# Altium integrated library Infineon_Power_MOSFET.IntLib: 1448 symbols (part 4 of 47)
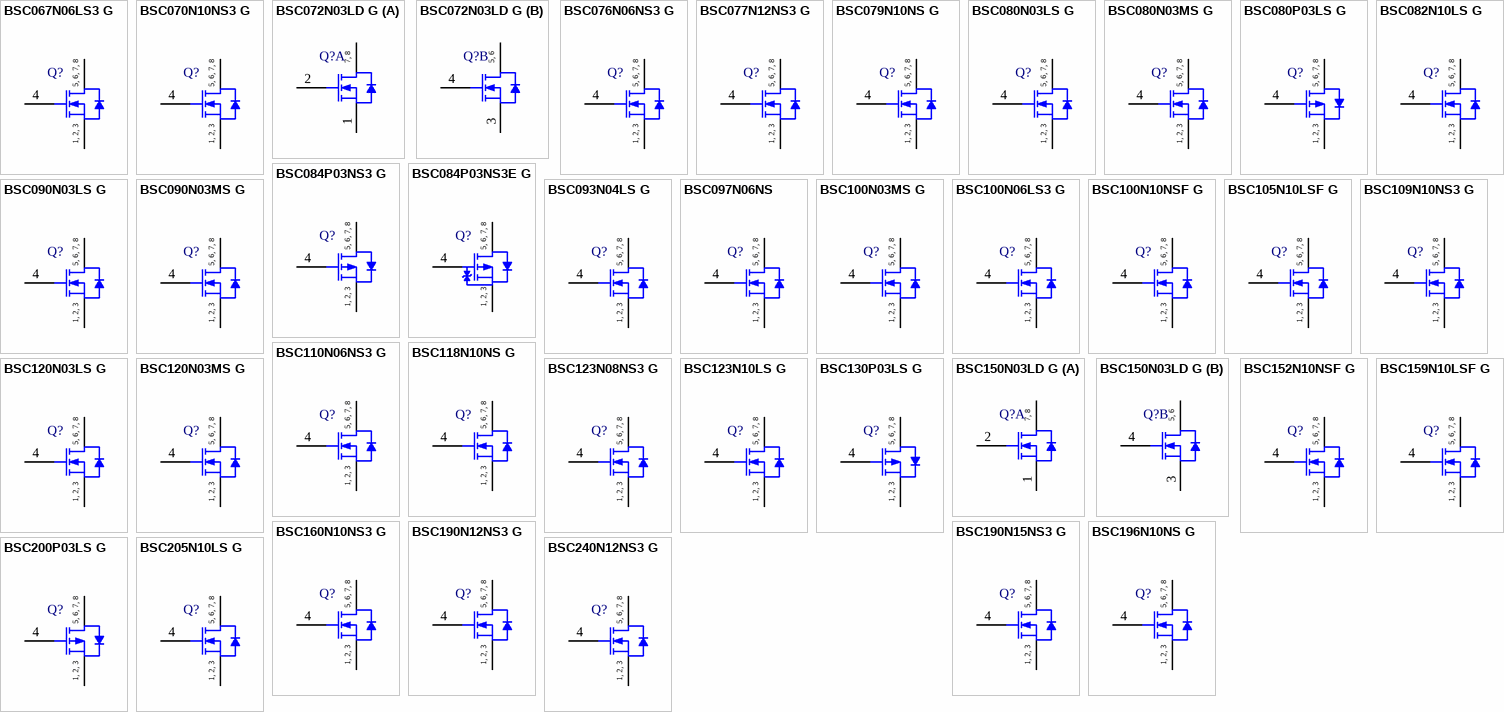
[diagram p40: symbols BSC067N06LS3 G to BSC240N12NS3 G]

## BSC093N04LS G
designator Q?
N-Channel OptiMOS 3 Power-Transistor, 40 V VDS, 49 A ID, -55 to 150 degC, PG-TDSON-8-1, Reel, Green; Manufacturer: Infineon; PartNumber: BSC093N04LS G; Green: TRUE; ID (max): 49 A; IDpuls (max): 196 A; Polarity: N; Ptot (max): 35 W; QG: 18 nC; RDS (on) (max): 9.3 mOhm; RDS (on) (max) (@4.5V): 13.7 mOhm; Rth: 3.6 K/W; RthJA (max): 50 K/W; VDS (max): 40 V; VGS(th) (max): 2 V; VGS(th) (min): 1.2 V; DatasheetVersion: Rev. 1.04; PackageReference: PG-TDSON-8-1; PackageDescription: 8-Pin Plastic (Green) Thin Dual Small Outline Non-Leaded Package, 5.15 x 5.9 mm Body, 1.27 mm Pitch; Supplier 1: Mouser; Supplier Part Number 1: 726-BSC093N04LSG; Supplier 2: Newark; Supplier Part Number 2: 60R2507; Supplier 3: Farnell; Supplier Part Number 3: 1775460; Supplier 4: Digi-Key; Supplier Part Number 4: BSC093N04LS GTR-ND; Supplier 5: Digi-Key; Supplier Part Number 5: BSC093N04LS GCT-ND; Supplier 6: Digi-Key; Supplier Part Number 6: BSC093N04LS GDKR-ND; Halogen-free: TRUE; Packing: Reel; RthJC (max): 3.6 K/W; Mounting Technology: Surface Mount; ComponentLink1Description: Manufacturer URL; ComponentLink1URL: http://www.infineon.com/; ComponentLink2Description: Datasheet; ComponentLink2URL: http://www.infineon.com/dgdl/BSC093N04LSG_rev14.pdf?folderId=db3a3043156fd5730115c7d50620107c&fileId=db3a30431689f4420116c44a1fa80822; ComponentLink3Description: Package Specification; ComponentLink3URL: http://www.infineon.com/cms/packages/SMD_-_Surface_Mounted_Devices/P-PG-TDSON/P-PG-TDSON-08-01x_2x_3.html?__locale=en
footprint INF-PG-TDSON-8-1_V (TDSON, 8-Leads, Body 6.15x5.15mm, Pitch 1.27mm)
pins: 1 SOURCE, 2 SOURCE, 3 SOURCE, 4 GATE, 5 DRAIN, 6 DRAIN, 7 DRAIN, 8 DRAIN
text: 5, 6, 7, 8; 1, 2, 3

## BSC097N06NS
designator Q?
N-Channel OptiMOS(TM) Power-Transistor, 60 V VDS, 46 A ID, -55 to 150 degC, PG-TDSON-8, Reel, Green; Manufacturer: Infineon; PartNumber: BSC097N06NS; Green: TRUE; ID (max): 46 A; IDpuls (max): 184 A; Polarity: N; Ptot (max): 36 W; RDS (on) (max): 9.7 mOhm; RthJA (max): 50 K/W; RthJC (max): 3.5 K/W; VDS (max): 60 V; VGS(th) (max): 3.3 V; VGS(th) (min): 2.1 V; DatasheetVersion: Rev. 2.0; PackageVersion: Rev. 04, 04/2013; PackageReference: PG-TDSON-8-04; PackageDescription: 8-Pin Plastic (Green) Thin Dual Small Outline Non-Leaded Package, 5.9 x 5.15 mm Body, 1.27 mm Pitch; Supplier 1: Mouser; Supplier Part Number 1: N/A; Halogen-free: TRUE; Mounting: SMD; Packing: Reel; Technology: OptiMOS(TM); Mounting Technology: Surface Mount; ComponentLink1Description: Manufacturer URL; ComponentLink1URL: http://www.infineon.com/; ComponentLink2Description: Datasheet; ComponentLink2URL: http://www.infineon.com/dgdl/BSC097N06NS_Rev2.0.pdf?folderId=db3a304313b8b5a60113cee8763b02d7&fileId=db3a304342371bb001424cdd69b87155; ComponentLink3Description: Package Specification; ComponentLink3URL: http://www.infineon.com/dgdl/BSC019N04LS_rev2.0.pdf?folderId=db3a304313b8b5a60113cee8763b02d7&fileId=db3a304342371bb001424b8aca0c6fc4
footprint INF-PG-TDSON-8-04_V (SON, 8-Leads, Body 5.9x5.15mm, Pitch 1.27mm)
pins: 1 SOURCE, 2 SOURCE, 3 SOURCE, 4 GATE, 5 DRAIN, 6 DRAIN, 7 DRAIN, 8 DRAIN
text: 5, 6, 7, 8; 1, 2, 3

## BSC100N03MS G
designator Q?
N-Channel OptiMOS 3 M-Series Power-MOSFET, 30 V VDS, 44 A ID, -55 to 150 degC, PG-TDSON-8-1, Reel, Green; Manufacturer: Infineon; PartNumber: BSC100N03MS G; Green: TRUE; ID (max): 44 A; IDpuls (max): 176 A; Polarity: N; Ptot (max): 30 W; QG: 17 nC; RDS (on) (max): 10 mOhm; RDS (on) (max) (@4.5V): 12 mOhm; Rth: 4.1 K/W; RthJA (max): 50 K/W; VDS (max): 30 V; VGS(th) (max): 2 V; VGS(th) (min): 1 V; DatasheetVersion: Rev. 1.16; PackageReference: PG-TDSON-8-1; PackageDescription: 8-Pin Plastic (Green) Thin Dual Small Outline Non-Leaded Package, 5.15 x 5.9 mm Body, 1.27 mm Pitch; Supplier 1: Mouser; Supplier Part Number 1: 726-BSC100N03MSG; Supplier 2: Digi-Key; Supplier Part Number 2: BSC100N03MSGINTR-ND; Supplier 3: Digi-Key; Supplier Part Number 3: BSC100N03MSGINCT-ND; Supplier 4: Digi-Key; Supplier Part Number 4: BSC100N03MSGINDKR-ND; Halogen-free: TRUE; Packing: Reel; RthJC (max): 4.1 K/W; Mounting Technology: Surface Mount; ComponentLink1Description: Manufacturer URL; ComponentLink1URL: http://www.infineon.com/; ComponentLink2Description: Datasheet; ComponentLink2URL: http://www.infineon.com/dgdl/BSC100N03MSG_rev1.16.pdf?folderId=db3a304313d846880113d91d60c500c4&fileId=db3a304313d846880113de73c33c039c; ComponentLink3Description: Package Specification; ComponentLink3URL: http://www.infineon.com/cms/packages/SMD_-_Surface_Mounted_Devices/P-PG-TDSON/P-PG-TDSON-08-01x_2x_3.html?__locale=en
footprint INF-PG-TDSON-8-1_V (TDSON, 8-Leads, Body 6.15x5.15mm, Pitch 1.27mm)
pins: 1 SOURCE, 2 SOURCE, 3 SOURCE, 4 GATE, 5 DRAIN, 6 DRAIN, 7 DRAIN, 8 DRAIN
text: 5, 6, 7, 8; 1, 2, 3

## BSC100N06LS3 G
designator Q?
N-Channel OptiMOS 3 Power-Transistor, 60 V VDS, 50 A ID, -55 to 150 degC, PG-TDSON-8-1, Reel, Green; Manufacturer: Infineon; PartNumber: BSC100N06LS3 G; Green: TRUE; ID (max): 50 A; IDpuls (max): 200 A; Polarity: N; Ptot (max): 50 W; QG: 15 nC; RDS (on) (max): 10 mOhm; RDS (on) (max) (@4.5V): 17.9 mOhm; Rth: 2.5 K/W; RthJA (max): 62 K/W; VDS (max): 60 V; VGS(th) (max): 2.2 V; VGS(th) (min): 1.2 V; DatasheetVersion: Rev. 2.2; PackageReference: PG-TDSON-8-1; PackageDescription: 8-Pin Plastic (Green) Thin Dual Small Outline Non-Leaded Package, 5.15 x 5.9 mm Body, 1.27 mm Pitch; Supplier 1: Mouser; Supplier Part Number 1: 726-BSC100N06LS3G; Supplier 2: Newark; Supplier Part Number 2: 47W3311; Supplier 3: Farnell; Supplier Part Number 3: 2212844; Supplier 4: Digi-Key; Supplier Part Number 4: BSC100N06LS3 GTR-ND; Supplier 5: Digi-Key; Supplier Part Number 5: BSC100N06LS3 GCT-ND; Supplier 6: Digi-Key; Supplier Part Number 6: BSC100N06LS3 GDKR-ND; Halogen-free: TRUE; Packing: Reel; RthJC (max): 2.5 K/W; Mounting Technology: Surface Mount; ComponentLink1Description: Manufacturer URL; ComponentLink1URL: http://www.infineon.com/; ComponentLink2Description: Datasheet; ComponentLink2URL: http://www.infineon.com/dgdl/BSC100N06LS3_rev2.2.pdf?folderId=db3a30431ddc9372011ebafa04517f8b&fileId=db3a30431ddc9372011ebb0823387fd7; ComponentLink3Description: Package Specification; ComponentLink3URL: http://www.infineon.com/cms/packages/SMD_-_Surface_Mounted_Devices/P-PG-TDSON/P-PG-TDSON-08-01x_2x_3.html?__locale=en
footprint INF-PG-TDSON-8-1_V (TDSON, 8-Leads, Body 6.15x5.15mm, Pitch 1.27mm)
pins: 1 SOURCE, 2 SOURCE, 3 SOURCE, 4 GATE, 5 DRAIN, 6 DRAIN, 7 DRAIN, 8 DRAIN
text: 5, 6, 7, 8; 1, 2, 3

## BSC100N10NSF G
designator Q?
N-Channel OptiMOS 2 Power-Transistor, 100 V VDS, 90 A ID, -55 to 150 degC, PG-TDSON-8-1, Reel, Green; Manufacturer: Infineon; PartNumber: BSC100N10NSF G; Green: TRUE; ID (max): 90 A; IDpuls (max): 360 A; Polarity: N; Ptot (max): 156 W; QG: 33 nC; RDS (on) (max): 10 mOhm; Rth: 0.8 K/W; RthJA (max): 62 K/W; VDS (max): 100 V; VGS(th) (max): 4 V; VGS(th) (min): 2 V; DatasheetVersion: Rev. 2.08; PackageReference: PG-TDSON-8-1; PackageDescription: 8-Pin Plastic (Green) Thin Dual Small Outline Non-Leaded Package, 5.15 x 5.9 mm Body, 1.27 mm Pitch; Supplier 1: Mouser; Supplier Part Number 1: 726-BSC100N10NSFG; Supplier 2: Digi-Key; Supplier Part Number 2: BSC100N10NSF GTR-ND; Supplier 3: Digi-Key; Supplier Part Number 3: BSC100N10NSF GCT-ND; Supplier 4: Digi-Key; Supplier Part Number 4: BSC100N10NSF GDKR-ND; Halogen-free: TRUE; Packing: Reel; RthJC (max): 0.8 K/W; Mounting Technology: Surface Mount; ComponentLink1Description: Manufacturer URL; ComponentLink1URL: http://www.infineon.com/; ComponentLink2Description: Datasheet; ComponentLink2URL: http://www.infineon.com/dgdl/BSC100N10NSF+Rev28.pdf?folderId=db3a304313b8b5a60113cee8763b02d7&fileId=db3a30431b3e89eb011b49a75b607b57; ComponentLink3Description: Package Specification; ComponentLink3URL: http://www.infineon.com/cms/packages/SMD_-_Surface_Mounted_Devices/P-PG-TDSON/P-PG-TDSON-08-01x_2x_3.html?__locale=en
footprint INF-PG-TDSON-8-1_V (TDSON, 8-Leads, Body 6.15x5.15mm, Pitch 1.27mm)
pins: 1 SOURCE, 2 SOURCE, 3 SOURCE, 4 GATE, 5 DRAIN, 6 DRAIN, 7 DRAIN, 8 DRAIN
text: 5, 6, 7, 8; 1, 2, 3

## BSC105N10LSF G
designator Q?
N-Channel OptiMOS 2 Power-Transistor, 100 V VDS, 90 A ID, -55 to 150 degC , PG-TDSON-8-1, Reel, Green; Manufacturer: Infineon; PartNumber: BSC105N10LSF G; Green: TRUE; ID (max): 90 A; IDpuls (max): 360 A; Polarity: N; Ptot (max): 156 W; QG: 40 nC; RDS (on) (max): 10.5 mOhm; RDS (on) (max) (@4.5V): 14.1 mOhm; Rth: 0.8 K/W; RthJA (max): 62 K/W; RthJC (max): 0.8 K/W; VDS (max): 100 V; VGS(th) (max): 2.4 V; VGS(th) (min): 1.2 V; DatasheetVersion: Rev. 2.09; PackageReference: PG-TDSON-8-1; PackageDescription: 8-Pin Plastic (Green) Thin Dual Small Outline Non-Leaded Package, 5.15 x 5.9 mm Body, 1.27 mm Pitch; Supplier 1: Mouser; Supplier Part Number 1: 726-BSC105N10LSFG; Supplier 2: Digi-Key; Supplier Part Number 2: BSC105N10LSF G-ND; Halogen-free: TRUE; Packing: Reel; Mounting Technology: Surface Mount; ComponentLink1Description: Manufacturer URL; ComponentLink1URL: http://www.infineon.com/; ComponentLink2Description: Datasheet; ComponentLink2URL: http://www.infineon.com/dgdl/BSC105N10LSF+Rev29.pdf?folderId=db3a304313b8b5a60113cee8763b02d7&fileId=db3a30431b3e89eb011b499b2aa07b26; ComponentLink3Description: Package Specification; ComponentLink3URL: http://www.infineon.com/cms/packages/SMD_-_Surface_Mounted_Devices/P-PG-TDSON/P-PG-TDSON-08-01x_2x_3.html?__locale=en
footprint INF-PG-TDSON-8-1_V (TDSON, 8-Leads, Body 6.15x5.15mm, Pitch 1.27mm)
pins: 1 SOURCE, 2 SOURCE, 3 SOURCE, 4 GATE, 5 DRAIN, 6 DRAIN, 7 DRAIN, 8 DRAIN
text: 5, 6, 7, 8; 1, 2, 3

## BSC109N10NS3 G
designator Q?
N-Channel OptiMOS 3 Power-Transistor, 100 V VDS, 63 A ID, -55 to 150 degC, PG-TDSON-8-1, Reel, Green; Manufacturer: Infineon; PartNumber: BSC109N10NS3 G; Green: TRUE; ID (max): 63 A; IDpuls (max): 252 A; Polarity: N; Ptot (max): 78 W; QG: 26 nC; RDS (on) (max): 10.9 mOhm; Rth: 1.5 K/W; RthJA (max): 62 K/W; VDS (max): 100 V; VGS(th) (max): 3.5 V; VGS(th) (min): 2 V; DatasheetVersion: Rev. 2.0; PackageReference: PG-TDSON-8-1; PackageDescription: 8-Pin Plastic (Green) Thin Dual Small Outline Non-Leaded Package, 5.15 x 5.9 mm Body, 1.27 mm Pitch; Supplier 1: Mouser; Supplier Part Number 1: 726-BSC109N10NS3G; Supplier 2: Digi-Key; Supplier Part Number 2: BSC109N10NS3 GTR-ND; Supplier 3: Digi-Key; Supplier Part Number 3: BSC109N10NS3 GCT-ND; Supplier 4: Digi-Key; Supplier Part Number 4: BSC109N10NS3 GDKR-ND; Halogen-free: TRUE; Packing: Reel; RthJC (max): 1.5 K/W; Mounting Technology: Surface Mount; ComponentLink1Description: Manufacturer URL; ComponentLink1URL: http://www.infineon.com/; ComponentLink2Description: Datasheet; ComponentLink2URL: http://www.infineon.com/dgdl/BSC109N10NS3+Rev2.pdf?folderId=db3a304313b8b5a60113cee8763b02d7&fileId=db3a304327b897500128247bdae36f3f; ComponentLink3Description: Package Specification; ComponentLink3URL: http://www.infineon.com/cms/packages/SMD_-_Surface_Mounted_Devices/P-PG-TDSON/P-PG-TDSON-08-01x_2x_3.html?__locale=en
footprint INF-PG-TDSON-8-1_V (TDSON, 8-Leads, Body 6.15x5.15mm, Pitch 1.27mm)
pins: 1 SOURCE, 2 SOURCE, 3 SOURCE, 4 GATE, 5 DRAIN, 6 DRAIN, 7 DRAIN, 8 DRAIN
text: 5, 6, 7, 8; 1, 2, 3

## BSC110N06NS3 G
designator Q?
N-Channel OptiMOS 3 Power-Transistor, 60 V VDS, 50 A ID, -55 to 150 degC, PG-TDSON-8-1, Reel, Green; Manufacturer: Infineon; PartNumber: BSC110N06NS3 G; Green: TRUE; ID (max): 50 A; IDpuls (max): 200 A; Polarity: N; Ptot (max): 50 W; QG: 25 nC; RDS (on) (max): 11 mOhm; Rth: 2.5 K/W; RthJA (max): 62 K/W; VDS (max): 60 V; VGS(th) (max): 4 V; VGS(th) (min): 2 V; DatasheetVersion: Rev. 2.3; PackageReference: PG-TDSON-8-1; PackageDescription: 8-Pin Plastic (Green) Thin Dual Small Outline Non-Leaded Package, 5.15 x 5.9 mm Body, 1.27 mm Pitch; Supplier 1: Mouser; Supplier Part Number 1: 726-BSC110N06NS3G; Supplier 2: Newark; Supplier Part Number 2: 47W3312; Supplier 3: Farnell; Supplier Part Number 3: 2212842; Supplier 4: Digi-Key; Supplier Part Number 4: BSC110N06NS3 GTR-ND; Supplier 5: Digi-Key; Supplier Part Number 5: BSC110N06NS3 GCT-ND; Supplier 6: Digi-Key; Supplier Part Number 6: BSC110N06NS3 GDKR-ND; Halogen-free: TRUE; Packing: Reel; RthJC (max): 2.5 K/W; Mounting Technology: Surface Mount; ComponentLink1Description: Manufacturer URL; ComponentLink1URL: http://www.infineon.com/; ComponentLink2Description: Datasheet; ComponentLink2URL: http://www.infineon.com/dgdl/BSC110N06NS3_Rev2.3.pdf?folderId=db3a30431ddc9372011ebafa04517f8b&fileId=db3a30431ddc9372011ebb0be43c7fe6; ComponentLink3Description: Package Specification; ComponentLink3URL: http://www.infineon.com/cms/packages/SMD_-_Surface_Mounted_Devices/P-PG-TDSON/P-PG-TDSON-08-01x_2x_3.html?__locale=en
footprint INF-PG-TDSON-8-1_V (TDSON, 8-Leads, Body 6.15x5.15mm, Pitch 1.27mm)
pins: 1 SOURCE, 2 SOURCE, 3 SOURCE, 4 GATE, 5 DRAIN, 6 DRAIN, 7 DRAIN, 8 DRAIN
text: 5, 6, 7, 8; 1, 2, 3

## BSC118N10NS G
designator Q?
N-Channel OptiMOS 2 Power-Transistor, 100 V VDS, 71 A ID, -55 to 150 degC , PG-TDSON-8-1, Reel, Green; Manufacturer: Infineon; PartNumber: BSC118N10NS G; Green: TRUE; ID (max): 71 A; IDpuls (max): 280 A; Polarity: N; Ptot (max): 114 W; QG: 42 nC; RDS (on) (max): 11.8 mOhm; Rth: 1.1 K/W; RthJA (max): 62 K/W; VDS (max): 100 V; VGS(th) (max): 4 V; VGS(th) (min): 2 V; DatasheetVersion: Rev. 1.08; PackageReference: PG-TDSON-8-1; PackageDescription: 8-Pin Plastic (Green) Thin Dual Small Outline Non-Leaded Package, 5.15 x 5.9 mm Body, 1.27 mm Pitch; Supplier 1: Mouser; Supplier Part Number 1: 726-BSC118N10NSG; Supplier 2: Digi-Key; Supplier Part Number 2: BSC118N10NS G-ND; Halogen-free: TRUE; Packing: Reel; RthJC (max): 1.1 K/W; Mounting Technology: Surface Mount; ComponentLink1Description: Manufacturer URL; ComponentLink1URL: http://www.infineon.com/; ComponentLink2Description: Datasheet; ComponentLink2URL: http://www.infineon.com/dgdl/BSC118N10NS+Rev18_pdf.pdf?folderId=db3a3043156fd5730115c7d50620107c&fileId=db3a3043163797a6011647fdc2d4071c; ComponentLink3Description: Package Specification; ComponentLink3URL: http://www.infineon.com/cms/packages/SMD_-_Surface_Mounted_Devices/P-PG-TDSON/P-PG-TDSON-08-01x_2x_3.html?__locale=en
footprint INF-PG-TDSON-8-1_V (TDSON, 8-Leads, Body 6.15x5.15mm, Pitch 1.27mm)
pins: 1 SOURCE, 2 SOURCE, 3 SOURCE, 4 GATE, 5 DRAIN, 6 DRAIN, 7 DRAIN, 8 DRAIN
text: 5, 6, 7, 8; 1, 2, 3

## BSC120N03LS G
designator Q?
N-Channel OptiMOS 3 Power-MOSFET, 30 V VDS, 39 A ID, -55 to 150 degC, PG-TDSON-8-1, Reel, Green; Manufacturer: Infineon; PartNumber: BSC120N03LS G; Green: TRUE; ID (max): 39 A; IDpuls (max): 156 A; Polarity: N; Ptot (max): 28 W; QG: 5.4 nC; RDS (on) (max): 12 mOhm; RDS (on) (max) (@4.5V): 16.5 mOhm; Rth: 4.5 K/W; RthJA (max): 50 K/W; VDS (max): 30 V; VGS(th) (max): 2.2 V; VGS(th) (min): 1 V; DatasheetVersion: Rev. 1.6; PackageReference: PG-TDSON-8-1; PackageDescription: 8-Pin Plastic (Green) Thin Dual Small Outline Non-Leaded Package, 5.15 x 5.9 mm Body, 1.27 mm Pitch; Supplier 1: Mouser; Supplier Part Number 1: 726-BSC120N03LSG; Supplier 2: Newark; Supplier Part Number 2: 60R2513; Supplier 3: Farnell; Supplier Part Number 3: 1775466; Supplier 4: Digi-Key; Supplier Part Number 4: BSC120N03LSGINTR-ND; Supplier 5: Digi-Key; Supplier Part Number 5: BSC120N03LSGINCT-ND; Supplier 6: Digi-Key; Supplier Part Number 6: BSC120N03LSGINDKR-ND; Halogen-free: TRUE; Packing: Reel; RthJC (max): 4.5 K/W; Mounting Technology: Surface Mount; ComponentLink1Description: Manufacturer URL; ComponentLink1URL: http://www.infineon.com/; ComponentLink2Description: Datasheet; ComponentLink2URL: http://www.infineon.com/dgdl/BSC120N03LS_rev1.6.pdf?folderId=db3a3043132679fb0113346bdc4505a3&fileId=db3a3043183a955501189caf1e5e4010; ComponentLink3Description: Package Specification; ComponentLink3URL: http://www.infineon.com/cms/packages/SMD_-_Surface_Mounted_Devices/P-PG-TDSON/P-PG-TDSON-08-01x_2x_3.html?__locale=en
footprint INF-PG-TDSON-8-1_V (TDSON, 8-Leads, Body 6.15x5.15mm, Pitch 1.27mm)
pins: 1 SOURCE, 2 SOURCE, 3 SOURCE, 4 GATE, 5 DRAIN, 6 DRAIN, 7 DRAIN, 8 DRAIN
text: 5, 6, 7, 8; 1, 2, 3

## BSC120N03MS G
designator Q?
N-Channel OptiMOS 3 M-Series Power-MOSFET, 30 V VDS, 39 A ID, -55 to 150 degC, PG-TDSON-8-1, Reel, Green; Manufacturer: Infineon; PartNumber: BSC120N03MS G; Green: TRUE; ID (max): 39 A; IDpuls (max): 156 A; Polarity: N; Ptot (max): 28 W; QG: 15 nC; RDS (on) (max): 12 mOhm; RDS (on) (max) (@4.5V): 14 mOhm; Rth: 4.5 K/W; RthJA (max): 50 K/W; VDS (max): 30 V; VGS(th) (max): 2 V; VGS(th) (min): 1 V; DatasheetVersion: Rev. 1.17; PackageReference: PG-TDSON-8-1; PackageDescription: 8-Pin Plastic (Green) Thin Dual Small Outline Non-Leaded Package, 5.15 x 5.9 mm Body, 1.27 mm Pitch; Supplier 1: Mouser; Supplier Part Number 1: 726-BSC120N03MSG; Supplier 2: Newark; Supplier Part Number 2: 60R2514; Supplier 3: Farnell; Supplier Part Number 3: 1775468; Supplier 4: Digi-Key; Supplier Part Number 4: BSC120N03MSGINTR-ND; Supplier 5: Digi-Key; Supplier Part Number 5: BSC120N03MSGINCT-ND; Supplier 6: Digi-Key; Supplier Part Number 6: BSC120N03MSGINDKR-ND; Halogen-free: TRUE; Packing: Reel; RthJC (max): 4.5 K/W; Mounting Technology: Surface Mount; ComponentLink1Description: Manufacturer URL; ComponentLink1URL: http://www.infineon.com/; ComponentLink2Description: Datasheet; ComponentLink2URL: http://www.infineon.com/dgdl/BSC120N03MSG_rev1.17.pdf?folderId=db3a304313d846880113d91d60c500c4&fileId=db3a304313d846880113de761b1d03a5; ComponentLink3Description: Package Specification; ComponentLink3URL: http://www.infineon.com/cms/packages/SMD_-_Surface_Mounted_Devices/P-PG-TDSON/P-PG-TDSON-08-01x_2x_3.html?__locale=en
footprint INF-PG-TDSON-8-1_V (TDSON, 8-Leads, Body 6.15x5.15mm, Pitch 1.27mm)
pins: 1 SOURCE, 2 SOURCE, 3 SOURCE, 4 GATE, 5 DRAIN, 6 DRAIN, 7 DRAIN, 8 DRAIN
text: 5, 6, 7, 8; 1, 2, 3

## BSC123N08NS3 G
designator Q?
N-Channel OptiMOS 3 Power-Transistor, 80 V VDS, 55 A ID, -55 to 150 degC, PG-TDSON-8-1, Reel, Green; Manufacturer: Infineon; PartNumber: BSC123N08NS3 G; Green: TRUE; ID (max): 55 A; IDpuls (max): 220 A; Polarity: N; Ptot (max): 66 W; QG: 19 nC; RDS (on) (max): 12.3 mOhm; Rth: 1.9 K/W; RthJA (max): 60 K/W; VDS (max): 80 V; VGS(th) (max): 3.5 V; VGS(th) (min): 2 V; DatasheetVersion: Rev. 2.5; PackageReference: PG-TDSON-8-1; PackageDescription: 8-Pin Plastic (Green) Thin Dual Small Outline Non-Leaded Package, 5.15 x 5.9 mm Body, 1.27 mm Pitch; Supplier 1: Mouser; Supplier Part Number 1: 726-BSC123N08NS3G; Supplier 2: Newark; Supplier Part Number 2: 60R2515; Supplier 3: Farnell; Supplier Part Number 3: 1775469; Supplier 4: Digi-Key; Supplier Part Number 4: BSC123N08NS3 GTR-ND; Supplier 5: Digi-Key; Supplier Part Number 5: BSC123N08NS3 GCT-ND; Supplier 6: Digi-Key; Supplier Part Number 6: BSC123N08NS3 GDKR-ND; Halogen-free: TRUE; Packing: Reel; RthJC (max): 1.9 K/W; Mounting Technology: Surface Mount; ComponentLink1Description: Manufacturer URL; ComponentLink1URL: http://www.infineon.com/; ComponentLink2Description: Datasheet; ComponentLink2URL: http://www.infineon.com/dgdl/BSC123N08NS3G_rev2.5.pdf?folderId=db3a304313b8b5a60113cee8763b02d7&fileId=db3a30431add1d95011ae80eb8555625; ComponentLink3Description: Package Specification; ComponentLink3URL: http://www.infineon.com/cms/packages/SMD_-_Surface_Mounted_Devices/P-PG-TDSON/P-PG-TDSON-08-01x_2x_3.html?__locale=en
footprint INF-PG-TDSON-8-1_V (TDSON, 8-Leads, Body 6.15x5.15mm, Pitch 1.27mm)
pins: 1 SOURCE, 2 SOURCE, 3 SOURCE, 4 GATE, 5 DRAIN, 6 DRAIN, 7 DRAIN, 8 DRAIN
text: 5, 6, 7, 8; 1, 2, 3

## BSC123N10LS G
designator Q?
N-Channel OptiMOS 2 Power-Transistor, 100 V VDS, 71 A ID, -55 to 150 degC , PG-TDSON-8-1, Reel, Green; Manufacturer: Infineon; PartNumber: BSC123N10LS G; Green: TRUE; ID (max): 71 A; IDpuls (max): 284 A; Polarity: N; Ptot (max): 114 W; QG: 51 nC; RDS (on) (max): 12.3 mOhm; RDS (on) (max) (@4.5V): 16.6 mOhm; Rth: 1.1 K/W; RthJA (max): 62 K/W; VDS (max): 100 V; VGS(th) (max): 2.4 V; VGS(th) (min): 1.2 V; DatasheetVersion: Rev. 2.08; PackageReference: PG-TDSON-8-1; PackageDescription: 8-Pin Plastic (Green) Thin Dual Small Outline Non-Leaded Package, 5.15 x 5.9 mm Body, 1.27 mm Pitch; Supplier 1: Mouser; Supplier Part Number 1: 726-BSC123N10LSG; Supplier 2: Newark; Supplier Part Number 2: 52R3478; Supplier 3: Farnell; Supplier Part Number 3: 1775470; Supplier 4: Digi-Key; Supplier Part Number 4: BSC123N10LS G-ND; Halogen-free: TRUE; Packing: Reel; RthJC (max): 1.1 K/W; Mounting Technology: Surface Mount; ComponentLink1Description: Manufacturer URL; ComponentLink1URL: http://www.infineon.com/; ComponentLink2Description: Datasheet; ComponentLink2URL: http://www.infineon.com/dgdl/BSC123N10LS+Rev28.pdf?folderId=db3a304313b8b5a60113cee8763b02d7&fileId=db3a30431b3e89eb011b4626974b7df5; ComponentLink3Description: Package Specification; ComponentLink3URL: http://www.infineon.com/cms/packages/SMD_-_Surface_Mounted_Devices/P-PG-TDSON/P-PG-TDSON-08-01x_2x_3.html?__locale=en
footprint INF-PG-TDSON-8-1_V (TDSON, 8-Leads, Body 6.15x5.15mm, Pitch 1.27mm)
pins: 1 SOURCE, 2 SOURCE, 3 SOURCE, 4 GATE, 5 DRAIN, 6 DRAIN, 7 DRAIN, 8 DRAIN
text: 5, 6, 7, 8; 1, 2, 3

## BSC130P03LS G
designator Q?
P-Channel OptiMOS P Power-Transistor, -30 V VDS, -22.5 A ID, -55 to 150 degC, PG-TDSON-8-1, Reel, Green; Manufacturer: Infineon; PartNumber: BSC130P03LS G; Green: TRUE; ID (max): -22.5 A; IDpuls (max): -90 A; Pto t (max): 69 W; QG: -54.9 nC; RDS (on) (max): 13 mOhm; Rth: 1.8 K/W; VDS (max): -30 V; VGS(th) (max): -1 V; VGS(th) (min): -2.2 V; DatasheetVersion: Rev. 1.04; PackageReference: PG-TDSON-8-1; PackageDescription: 8-Pin Plastic (Green) Thin Dual Small Outline Non-Leaded Package, 5.15 x 5.9 mm Body, 1.27 mm Pitch; Supplier 1: Mouser; Supplier Part Number 1: 726-BSC130P03LSG; Supplier 2: Digi-Key; Supplier Part Number 2: BSC130P03LS GINTR-ND; Supplier 3: Digi-Key; Supplier Part Number 3: BSC130P03LS GINCT-ND; Supplier 4: Digi-Key; Supplier Part Number 4: BSC130P03LS GINDKR-ND; Halogen-free: TRUE; Packing: Reel; RthJC (max): 1.8 K/W; Mounting Technology: Surface Mount; ComponentLink1Description: Manufacturer URL; ComponentLink1URL: http://www.infineon.com/; ComponentLink2Description: Datasheet; ComponentLink2URL: http://www.infineon.com/dgdl/BSC130P03LS+G_Rev14_.pdf?folderId=db3a304314dca38901154a7313d21a66&fileId=db3a304314dca38901154a78a8b31a6e; ComponentLink3Description: Package Specification; ComponentLink3URL: http://www.infineon.com/cms/packages/SMD_-_Surface_Mounted_Devices/P-PG-TDSON/P-PG-TDSON-08-01x_2x_3.html?__locale=en
footprint INF-PG-TDSON-8-1_V (TDSON, 8-Leads, Body 6.15x5.15mm, Pitch 1.27mm)
pins: 1 SOURCE, 2 SOURCE, 3 SOURCE, 4 GATE, 5 DRAIN, 6 DRAIN, 7 DRAIN, 8 DRAIN
text: 5, 6, 7, 8; 1, 2, 3

## BSC150N03LD G
designator Q?
N-Channel OptiMOS 3 Power-Transistor, 30 V VDS, 20 A ID, -55 to 150 degC, PG-TDSON-8-4, Reel, Green; Manufacturer: Infineon; PartNumber: BSC150N03LD G; Green: TRUE; ID (max): 20 A; IDpuls (max): 80 A; Polarity: N; Ptot (max): 26 W; QG: 4.8 nC; RDS (on) (max): 15 mOhm; RDS (on) (max) (@4.5V): 22 mOhm; Rth: 4.9 K/W; RthJA (max): 35 K/W; VDS (max): 30 V; VGS(th) (max): 2.2 V; VGS(th) (min): 1 V; DatasheetVersion: Rev. 1.4; PackageVersion: Rev. 03; PackageReference: PG-TDSON-8-4; PackageDescription: 8-Pin Plastic (Green) Thin Dual Small Outline Non-Leaded Package, 5.15 x 5.9 mm Body, 1.27 mm Pitch; Supplier 1: Mouser; Supplier Part Number 1: 726-BSC150N03LDG; Supplier 2: Newark; Supplier Part Number 2: 60R2516; Supplier 3: Farnell; Supplier Part Number 3: 1775471; Supplier 4: Digi-Key; Supplier Part Number 4: BSC150N03LD GTR-ND; Supplier 5: Digi-Key; Supplier Part Number 5: BSC150N03LD GCT-ND; Supplier 6: Digi-Key; Supplier Part Number 6: BSC150N03LD GDKR-ND; Halogen-free: TRUE; Packing: Reel; RthJC (max): 4.9 K/W; Mounting Technology: Surface Mount; ComponentLink1Description: Manufacturer URL; ComponentLink1URL: http://www.infineon.com/; ComponentLink2Description: Datasheet; ComponentLink2URL: http://www.infineon.com/dgdl/BSC150N03LD_rev1.4.pdf?folderId=db3a304313b8b5a60113cee8ed2a02db&fileId=db3a304316f66ee80116fb504a5d729f; ComponentLink3Description: Package Specification; ComponentLink3URL: http://www.infineon.com/cms/packages/SMD_-_Surface_Mounted_Devices/P-PG-TDSON/P-PG-TDSON-08-04.html?__locale=en
footprint INF-PG-TDSON-8-4_V (SON, 8-Leads, Body 5.9x5.15mm, Pitch 1.27mm)
part A pins: 1 S1, 2 G1, 7 D1, 8 D1
part B pins: 3 S2, 4 G2, 5 D2, 6 D2
part A text: 7, 8
part B text: 5, 6

## BSC152N10NSF G
designator Q?
N-Channel OptiMOS 2 Power-Transistor, 100 V VDS, 63 A ID, -55 to 150 degC , PG-TDSON-8-1, Reel, Green; Manufacturer: Infineon; PartNumber: BSC152N10NSF G; Green: TRUE; ID (max): 63 A; IDpuls (max): 252 A; Polarity: N; Ptot (max): 114 W; QG: 22 nC; RDS (on) (max): 15.2 mOhm; Rth: 1.1 K/W; RthJA (max): 62 K/W; VDS (max): 100 V; VGS(th) (max): 4 V; VGS(th) (min): 2 V; DatasheetVersion: Rev. 2.08; PackageReference: PG-TDSON-8-1; PackageDescription: 8-Pin Plastic (Green) Thin Dual Small Outline Non-Leaded Package, 5.15 x 5.9 mm Body, 1.27 mm Pitch; Supplier 1: Digi-Key; Supplier Part Number 1: BSC152N10NSF G-ND; Halogen-free: TRUE; Packing: Reel; RthJC (max): 1.1 K/W; Mounting Technology: Surface Mount; ComponentLink1Description: Manufacturer URL; ComponentLink1URL: http://www.infineon.com/; ComponentLink2Description: Datasheet; ComponentLink2URL: http://www.infineon.com/dgdl/BSC152N10NSF+Rev28.pdf?folderId=db3a304313b8b5a60113cee8763b02d7&fileId=db3a30431b3e89eb011b49abfbbb7b66; ComponentLink3Description: Package Specification; ComponentLink3URL: http://www.infineon.com/cms/packages/SMD_-_Surface_Mounted_Devices/P-PG-TDSON/P-PG-TDSON-08-01x_2x_3.html?__locale=en
footprint INF-PG-TDSON-8-1_V (TDSON, 8-Leads, Body 6.15x5.15mm, Pitch 1.27mm)
pins: 1 SOURCE, 2 SOURCE, 3 SOURCE, 4 GATE, 5 DRAIN, 6 DRAIN, 7 DRAIN, 8 DRAIN
text: 5, 6, 7, 8; 1, 2, 3

## BSC159N10LSF G
designator Q?
N-Channel OptiMOS 2 Power-Transistor, 100 V VDS, 63 A ID, -55 to 150 degC , PG-TDSON-8-1, Reel, Green; Manufacturer: Infineon; PartNumber: BSC159N10LSF G; Green: TRUE; ID (max): 63 A; IDpuls (max): 252 A; Polarity: N; Ptot (max): 114 W; QG: 26 nC; RDS (on) (max): 15.9 mOhm; RDS (on) (max) (@4.5V): 21.5 mOhm; Rth: 1.1 K/W; RthJA (max): 62 K/W; VDS (max): 100 V; VGS(th) (max): 2.4 V; VGS(th) (min): 1.2 V; DatasheetVersion: Rev. 2.09; PackageReference: PG-TDSON-8-1; PackageDescription: 8-Pin Plastic (Green) Thin Dual Small Outline Non-Leaded Package, 5.15 x 5.9 mm Body, 1.27 mm Pitch; Supplier 1: Mouser; Supplier Part Number 1: 726-BSC159N10LSFG; Supplier 2: Newark; Supplier Part Number 2: 60R2518; Supplier 3: Farnell; Supplier Part Number 3: 1775473; Supplier 4: Digi-Key; Supplier Part Number 4: BSC159N10LSF GTR-ND; Supplier 5: Digi-Key; Supplier Part Number 5: BSC159N10LSF GCT-ND; Supplier 6: Digi-Key; Supplier Part Number 6: BSC159N10LSF GDKR-ND; Halogen-free: TRUE; Packing: Reel; RthJC (max): 1.1 K/W; Mounting Technology: Surface Mount; ComponentLink1Description: Manufacturer URL; ComponentLink1URL: http://www.infineon.com/; ComponentLink2Description: Datasheet; ComponentLink2URL: http://www.infineon.com/dgdl/BSC159N10LSF+Rev29.pdf?folderId=db3a304313b8b5a60113cee8763b02d7&fileId=db3a30431b3e89eb011b499f85d47b36; ComponentLink3Description: Package Specification; ComponentLink3URL: http://www.infineon.com/cms/packages/SMD_-_Surface_Mounted_Devices/P-PG-TDSON/P-PG-TDSON-08-01x_2x_3.html?__locale=en
footprint INF-PG-TDSON-8-1_V (TDSON, 8-Leads, Body 6.15x5.15mm, Pitch 1.27mm)
pins: 1 SOURCE, 2 SOURCE, 3 SOURCE, 4 GATE, 5 DRAIN, 6 DRAIN, 7 DRAIN, 8 DRAIN
text: 5, 6, 7, 8; 1, 2, 3

## BSC160N10NS3 G
designator Q?
N-Channel OptiMOS 3 Power-Transistor, 100 V VDS, 42 A ID, -55 to 150 degC, PG-TDSON-8-1, Reel, Green; Manufacturer: Infineon; PartNumber: BSC160N10NS3 G; Green: TRUE; ID (max): 42 A; IDpuls (max): 168 A; Polarity: N; Ptot (max): 60 W; QG: 19 nC; RDS (on) (max): 16 mOhm; Rth: 2.1 K/W; RthJA (max): 50 K/W; VDS (max): 100 V; VGS(th) (max): 3.5 V; VGS(th) (min): 2 V; DatasheetVersion: Rev. 2.4; PackageReference: PG-TDSON-8-1; PackageDescription: 8-Pin Plastic (Green) Thin Dual Small Outline Non-Leaded Package, 5.15 x 5.9 mm Body, 1.27 mm Pitch; Supplier 1: Mouser; Supplier Part Number 1: 726-BSC160N10NS3G; Supplier 2: Digi-Key; Supplier Part Number 2: BSC160N10NS3 GINTR-ND; Supplier 3: Digi-Key; Supplier Part Number 3: BSC160N10NS3 GINCT-ND; Supplier 4: Digi-Key; Supplier Part Number 4: BSC160N10NS3 GINDKR-ND; Halogen-free: TRUE; Packing: Reel; RthJC (max): 2.1 K/W; Mounting Technology: Surface Mount; ComponentLink1Description: Manufacturer URL; ComponentLink1URL: http://www.infineon.com/; ComponentLink2Description: Datasheet; ComponentLink2URL: http://www.infineon.com/dgdl/BSC160N10NS3+Rev2.4.pdf?folderId=db3a304313b8b5a60113cee8763b02d7&fileId=db3a30432239cccd01226040189a7f47; ComponentLink3Description: Package Specification; ComponentLink3URL: http://www.infineon.com/cms/packages/SMD_-_Surface_Mounted_Devices/P-PG-TDSON/P-PG-TDSON-08-01x_2x_3.html?__locale=en
footprint INF-PG-TDSON-8-1_V (TDSON, 8-Leads, Body 6.15x5.15mm, Pitch 1.27mm)
pins: 1 SOURCE, 2 SOURCE, 3 SOURCE, 4 GATE, 5 DRAIN, 6 DRAIN, 7 DRAIN, 8 DRAIN
text: 5, 6, 7, 8; 1, 2, 3

## BSC190N12NS3 G
designator Q?
N-Channel OptiMOS 3 Power-Transistor, 120 V VDS, 44 A ID, -55 to 150 degC , PG-TDSON-8-1, Reel, Green; Manufacturer: Infineon; PartNumber: BSC190N12NS3 G; Green: TRUE; ID (max): 44 A; IDpuls (max): 176 A; Polarity: N; Ptot (max): 69 W; QG: 26 nC; RDS (on) (max): 19 mOhm; Rth: 1.8 K/W; RthJA (max): 62 K/W; VDS (max): 120 V; VGS(th) (max): 4 V; VGS(th) (min): 2 V; DatasheetVersion: Rev. 2.5; PackageReference: PG-TDSON-8-1; PackageDescription: 8-Pin Plastic (Green) Thin Dual Small Outline Non-Leaded Package, 5.15 x 5.9 mm Body, 1.27 mm Pitch; Supplier 1: Mouser; Supplier Part Number 1: 726-BSC190N12NS3GXT; Supplier 2: Digi-Key; Supplier Part Number 2: BSC190N12NS3 GTR-ND; Supplier 3: Digi-Key; Supplier Part Number 3: BSC190N12NS3 GCT-ND; Supplier 4: Digi-Key; Supplier Part Number 4: BSC190N12NS3 GDKR-ND; Halogen-free: TRUE; Packing: Reel; RthJC (max): 1.8 K/W; Mounting Technology: Surface Mount; ComponentLink1Description: Manufacturer URL; ComponentLink1URL: http://www.infineon.com/; ComponentLink2Description: Datasheet; ComponentLink2URL: http://www.infineon.com/dgdl/BSC190N12NS3+Rev2.5.pdf?folderId=db3a304313b8b5a60113cee8763b02d7&fileId=db3a30432239cccd0122a7bb1e767d49; ComponentLink3Description: Package Specification; ComponentLink3URL: http://www.infineon.com/cms/packages/SMD_-_Surface_Mounted_Devices/P-PG-TDSON/P-PG-TDSON-08-01x_2x_3.html?__locale=en
footprint INF-PG-TDSON-8-1_V (TDSON, 8-Leads, Body 6.15x5.15mm, Pitch 1.27mm)
pins: 1 SOURCE, 2 SOURCE, 3 SOURCE, 4 GATE, 5 DRAIN, 6 DRAIN, 7 DRAIN, 8 DRAIN
text: 5, 6, 7, 8; 1, 2, 3

## BSC190N15NS3 G
designator Q?
N-Channel OptiMOS 3 Power-Transistor, 150 V VDS, 50 A ID, -55 to 150 degC, PG-TDSON-8-1, Reel, Green; Manufacturer: Infineon; PartNumber: BSC190N15NS3 G; Green: TRUE; ID (max): 50 A; IDpuls (max): 200 A; Polarity: N; Ptot (max): 125 W; QG: 23 nC; RDS (on) (max): 19 mOhm; Rth: 1 K/W; RthJA (max): 50 K/W; VDS (max): 150 V; VGS(th) (max): 4 V; VGS(th) (min): 2 V; DatasheetVersion: Rev. 2.4; PackageReference: PG-TDSON-8-1; PackageDescription: 8-Pin Plastic (Green) Thin Dual Small Outline Non-Leaded Package, 5.15 x 5.9 mm Body, 1.27 mm Pitch; Supplier 1: Mouser; Supplier Part Number 1: 726-BSC190N15NS3G; Supplier 2: Newark; Supplier Part Number 2: 79X1336; Supplier 3: Farnell; Supplier Part Number 3: 2432711; Supplier 4: Digi-Key; Supplier Part Number 4: BSC190N15NS3 GTR-ND; Supplier 5: Digi-Key; Supplier Part Number 5: BSC190N15NS3 GCT-ND; Supplier 6: Digi-Key; Supplier Part Number 6: BSC190N15NS3 GDKR-ND; Halogen-free: TRUE; Packing: Reel; RthJC (max): 1 K/W; Mounting Technology: Surface Mount; ComponentLink1Description: Manufacturer URL; ComponentLink1URL: http://www.infineon.com/; ComponentLink2Description: Datasheet; ComponentLink2URL: http://www.infineon.com/dgdl/BSC190N15NS3_Rev2.4.pdf?folderId=db3a304313b8b5a60113cee8763b02d7&fileId=db3a30431d8a6b3c011d8bf2fcf30076; ComponentLink3Description: Package Specification; ComponentLink3URL: http://www.infineon.com/cms/packages/SMD_-_Surface_Mounted_Devices/P-PG-TDSON/P-PG-TDSON-08-01x_2x_3.html?__locale=en
footprint INF-PG-TDSON-8-1_V (TDSON, 8-Leads, Body 6.15x5.15mm, Pitch 1.27mm)
pins: 1 SOURCE, 2 SOURCE, 3 SOURCE, 4 GATE, 5 DRAIN, 6 DRAIN, 7 DRAIN, 8 DRAIN
text: 5, 6, 7, 8; 1, 2, 3

## BSC196N10NS G
designator Q?
N-Channel OptiMOS 2 Power-Transistor, 100 V VDS, 45 A ID, -55 to 150 degC, PG-TDSON-8-1, Reel, Green; Manufacturer: Infineon; PartNumber: BSC196N10NS G; Green: TRUE; ID (max): 45 A; IDpuls (max): 164 A; Polarity: N; Ptot (max): 78 W; QG: 25 nC; RDS (on) (max): 19.6 mOhm; Rth: 1.6 K/W; RthJA (max): 62 K/W; VDS (max): 100 V; VGS(th) (max): 4 V; VGS(th) (min): 2 V; DatasheetVersion: Rev. 1.07; PackageReference: PG-TDSON-8-1; PackageDescription: 8-Pin Plastic (Green) Thin Dual Small Outline Non-Leaded Package, 5.15 x 5.9 mm Body, 1.27 mm Pitch; Supplier 1: Mouser; Supplier Part Number 1: 726-BSC196N10NSG; Supplier 2: Newark; Supplier Part Number 2: 60R2519; Supplier 3: Farnell; Supplier Part Number 3: 1775474; Supplier 4: Digi-Key; Supplier Part Number 4: BSC196N10NS GTR-ND; Supplier 5: Digi-Key; Supplier Part Number 5: BSC196N10NS GCT-ND; Supplier 6: Digi-Key; Supplier Part Number 6: BSC196N10NS GDKR-ND; Halogen-free: TRUE; Packing: Reel; RthJC (max): 1.6 K/W; Mounting Technology: Surface Mount; ComponentLink1Description: Manufacturer URL; ComponentLink1URL: http://www.infineon.com/; ComponentLink2Description: Datasheet; ComponentLink2URL: http://www.infineon.com/dgdl/BSC196N10NS+Rev17.pdf?folderId=db3a3043156fd5730115c7d50620107c&fileId=db3a3043163797a601164800549d071f; ComponentLink3Description: Package Specification; ComponentLink3URL: http://www.infineon.com/cms/packages/SMD_-_Surface_Mounted_Devices/P-PG-TDSON/P-PG-TDSON-08-01x_2x_3.html?__locale=en
footprint INF-PG-TDSON-8-1_V (TDSON, 8-Leads, Body 6.15x5.15mm, Pitch 1.27mm)
pins: 1 SOURCE, 2 SOURCE, 3 SOURCE, 4 GATE, 5 DRAIN, 6 DRAIN, 7 DRAIN, 8 DRAIN
text: 5, 6, 7, 8; 1, 2, 3

## BSC200P03LS G
designator Q?
OptiMOS-P Power-Transistor, -30 V VDS, -12.5 A ID, PG-TDSON-8-1, Reel, Green; Manufacturer: Infineon; PartNumber: BSC200P03LS G; Green: TRUE; ID (max): -12.5 A; RDS (on) (max): 20 mOhm; VDS (max): -30 V; DatasheetVersion: Rev. 1.04; PackageReference: PG-TDSON-8-1; PackageDescription: 8-Pin Plastic (Green) Thin Dual Small Outline Non-Leaded Package, 5.15 x 5.9 mm Body, 1.27 mm Pitch; Supplier 1: Digi-Key; Supplier Part Number 1: BSC200P03LS GINTR-ND; Supplier 2: Digi-Key; Supplier Part Number 2: BSC200P03LS GINCT-ND; Supplier 3: Digi-Key; Supplier Part Number 3: BSC200P03LS GINDKR-ND; Halogen-free: TRUE; Packing: Reel; Mounting Technology: Surface Mount; ComponentLink1Description: Manufacturer URL; ComponentLink1URL: http://www.infineon.com/; ComponentLink2Description: Datasheet; ComponentLink2URL: http://www.infineon.com/dgdl/BSC200P03LS+G_Rev14_.pdf?folderId=db3a304314dca38901154a7313d21a66&fileId=db3a304314dca38901154a79331b1a71; ComponentLink3Description: Package Specification; ComponentLink3URL: http://www.infineon.com/cms/packages/SMD_-_Surface_Mounted_Devices/P-PG-TDSON/P-PG-TDSON-08-01x_2x_3.html?__locale=en
footprint INF-PG-TDSON-8-1_V (TDSON, 8-Leads, Body 6.15x5.15mm, Pitch 1.27mm)
pins: 1 SOURCE, 2 SOURCE, 3 SOURCE, 4 GATE, 5 DRAIN, 6 DRAIN, 7 DRAIN, 8 DRAIN
text: 5, 6, 7, 8; 1, 2, 3

## BSC205N10LS G
designator Q?
N-Channel OptiMOS 2 Power-Transistor, 100 V VDS, 45 A ID, -55 to 150 degC, PG-TDSON-8-1, Reel, Green; Manufacturer: Infineon; PartNumber: BSC205N10LS G; Green: TRUE; ID (max): 45 A; IDpuls (max): 180 A; Polarity: N; Ptot (max): 76 W; QG: 31 nC; RDS (on) (max): 20.5 mOhm; RDS (on) (max) (@4.5V): 28 mOhm; Rth: 1.6 K/W; RthJA (max): 62 K/W; VDS (max): 100 V; VGS(th) (max): 2.4 V; VGS(th) (min): 1.2 V; DatasheetVersion: Rev. 2.08; PackageReference: PG-TDSON-8-1; PackageDescription: 8-Pin Plastic (Green) Thin Dual Small Outline Non-Leaded Package, 5.15 x 5.9 mm Body, 1.27 mm Pitch; Supplier 1: Mouser; Supplier Part Number 1: 726-BSC205N10LSG; Supplier 2: Digi-Key; Supplier Part Number 2: BSC205N10LS GTR-ND; Supplier 3: Digi-Key; Supplier Part Number 3: BSC205N10LS GCT-ND; Supplier 4: Digi-Key; Supplier Part Number 4: BSC205N10LS GDKR-ND; Halogen-free: TRUE; Packing: Reel; RthJC (max): 1.6 K/W; Mounting Technology: Surface Mount; ComponentLink1Description: Manufacturer URL; ComponentLink1URL: http://www.infineon.com/; ComponentLink2Description: Datasheet; ComponentLink2URL: http://www.infineon.com/dgdl/BSC205N10LS+Rev28.pdf?folderId=db3a304313b8b5a60113cee8763b02d7&fileId=db3a30431b3e89eb011b461925627de5; ComponentLink3Description: Package Specification; ComponentLink3URL: http://www.infineon.com/cms/packages/SMD_-_Surface_Mounted_Devices/P-PG-TDSON/P-PG-TDSON-08-01x_2x_3.html?__locale=en
footprint INF-PG-TDSON-8-1_V (TDSON, 8-Leads, Body 6.15x5.15mm, Pitch 1.27mm)
pins: 1 SOURCE, 2 SOURCE, 3 SOURCE, 4 GATE, 5 DRAIN, 6 DRAIN, 7 DRAIN, 8 DRAIN
text: 5, 6, 7, 8; 1, 2, 3

## BSC240N12NS3 G
designator Q?
N-Channel OptiMOS 3 Power-Transistor, 120 V VDS, 37 A ID, -55 to 150 degC , PG-TDSON-8-1, Reel, Green; Manufacturer: Infineon; PartNumber: BSC240N12NS3 G; Green: TRUE; ID (max): 37 A; IDpuls (max): 148 A; Polarity: N; Ptot (max): 66 W; QG: 20 nC; RDS (on) (max): 24 mOhm; Rth: 1.9 K/W; RthJA (max): 50 K/W; RthJC (max): 1.9 K/W; VDS (max): 120 V; VGS(th) (max): 4 V; VGS(th) (min): 2 V; DatasheetVersion: Rev. 2.0; PackageReference: PG-TDSON-8-1; PackageDescription: 8-Pin Plastic (Green) Thin Dual Small Outline Non-Leaded Package, 5.15 x 5.9 mm Body, 1.27 mm Pitch; Supplier 1: Mouser; Supplier Part Number 1: 726-BSC240N12NS3G; Supplier 2: Digi-Key; Supplier Part Number 2: BSC240N12NS3 GTR-ND; Supplier 3: Digi-Key; Supplier Part Number 3: BSC240N12NS3 GCT-ND; Supplier 4: Digi-Key; Supplier Part Number 4: BSC240N12NS3 GDKR-ND; Halogen-free: TRUE; Packing: Reel; Mounting Technology: Surface Mount; ComponentLink1Description: Manufacturer URL; ComponentLink1URL: http://www.infineon.com/; ComponentLink2Description: Datasheet; ComponentLink2URL: http://www.infineon.com/dgdl/BSC240N12NS3+Rev2.pdf?folderId=db3a304313b8b5a60113cee8763b02d7&fileId=db3a30432a40a650012a42e6a9060027; ComponentLink3Description: Package Specification; ComponentLink3URL: http://www.infineon.com/cms/packages/SMD_-_Surface_Mounted_Devices/P-PG-TDSON/P-PG-TDSON-08-01x_2x_3.html?__locale=en
footprint INF-PG-TDSON-8-1_V (TDSON, 8-Leads, Body 6.15x5.15mm, Pitch 1.27mm)
pins: 1 SOURCE, 2 SOURCE, 3 SOURCE, 4 GATE, 5 DRAIN, 6 DRAIN, 7 DRAIN, 8 DRAIN
text: 5, 6, 7, 8; 1, 2, 3

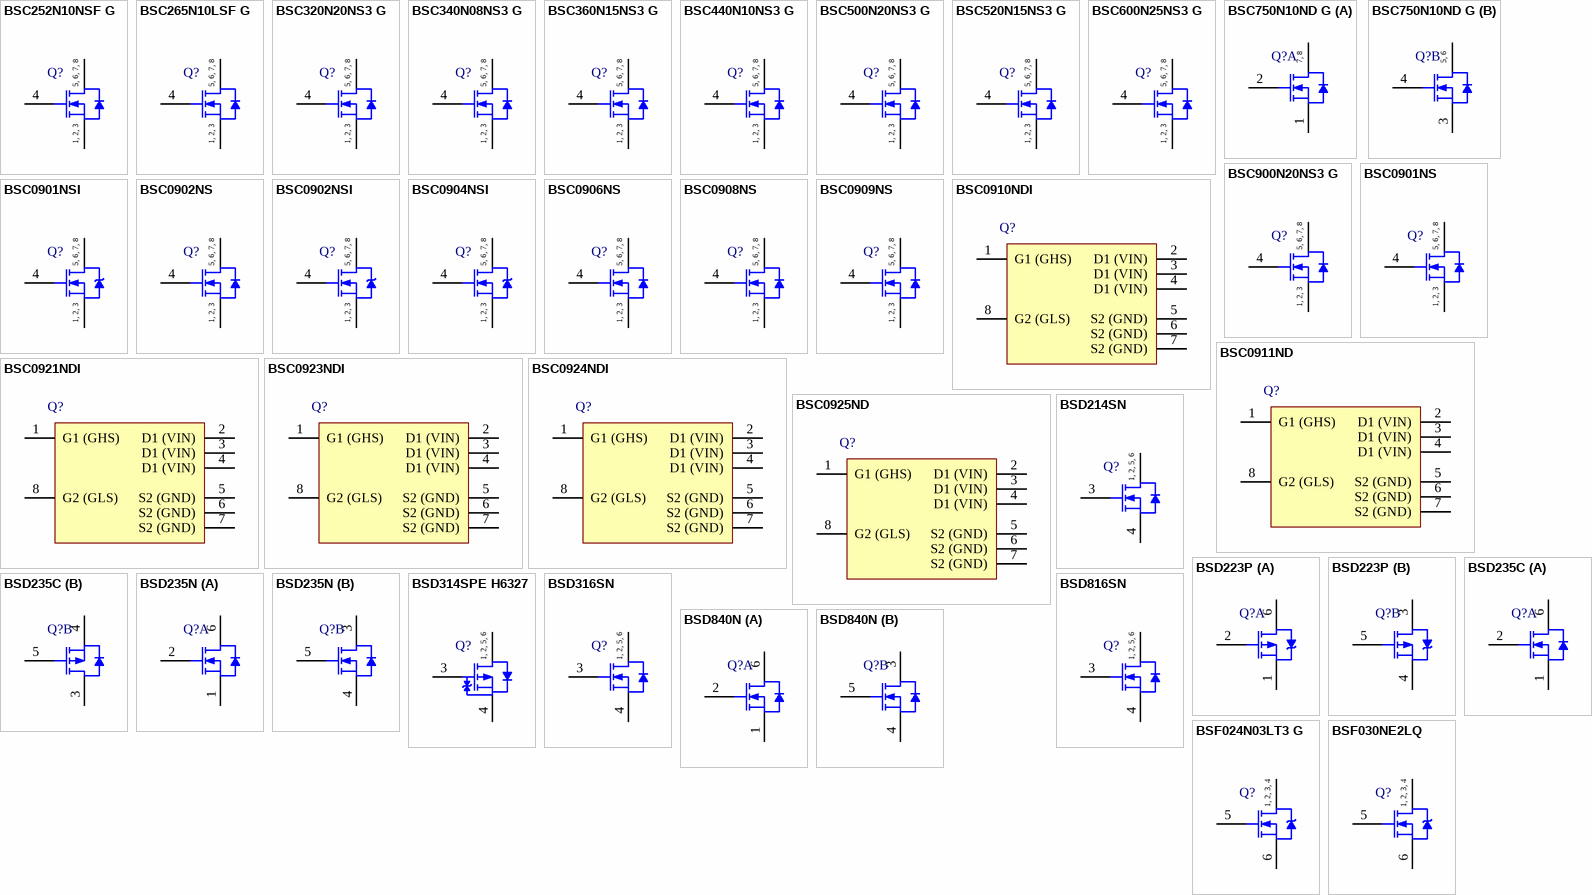
[diagram p3: symbols BSC252N10NSF G to BSF030NE2LQ]

## BSC252N10NSF G
designator Q?
N-Channel OptiMOS 2 Power-Transistor, 100 V VDS, 40 A ID, -55 to 150 degC, PG-TDSON-8-1, Reel, Green; Manufacturer: Infineon; PartNumber: BSC252N10NSF G; Green: TRUE; ID (max): 40 A; IDpuls (max): 160 A; Polarity: N; Ptot (max): 78 W; QG: 13 nC; RDS (on) (max): 25.2 mOhm; Rth: 1.6 K/W; RthJA (max): 62 K/W; VDS (max): 100 V; VGS(th) (max): 4 V; VGS(th) (min): 2 V; DatasheetVersion: Rev. 2.08; PackageReference: PG-TDSON-8-1; PackageDescription: 8-Pin Plastic (Green) Thin Dual Small Outline Non-Leaded Package, 5.15 x 5.9 mm Body, 1.27 mm Pitch; Supplier 1: Mouser; Supplier Part Number 1: 726-BSC252N10NSFG; Supplier 2: Newark; Supplier Part Number 2: 60R2521; Supplier 3: Farnell; Supplier Part Number 3: 1775477; Supplier 4: Digi-Key; Supplier Part Number 4: BSC252N10NSF G-ND; Halogen-free: TRUE; Packing: Reel; RthJC (max): 1.6 K/W; Mounting Technology: Surface Mount; ComponentLink1Description: Manufacturer URL; ComponentLink1URL: http://www.infineon.com/; ComponentLink2Description: Datasheet; ComponentLink2URL: http://www.infineon.com/dgdl/BSC252N10NSF+Rev28.pdf?folderId=db3a304313b8b5a60113cee8763b02d7&fileId=db3a30431b3e89eb011b498909e97b17; ComponentLink3Description: Package Specification; ComponentLink3URL: http://www.infineon.com/cms/packages/SMD_-_Surface_Mounted_Devices/P-PG-TDSON/P-PG-TDSON-08-01x_2x_3.html?__locale=en
footprint INF-PG-TDSON-8-1_V (TDSON, 8-Leads, Body 6.15x5.15mm, Pitch 1.27mm)
pins: 1 SOURCE, 2 SOURCE, 3 SOURCE, 4 GATE, 5 DRAIN, 6 DRAIN, 7 DRAIN, 8 DRAIN
text: 5, 6, 7, 8; 1, 2, 3

## BSC265N10LSF G
designator Q?
N-Channel OptiMOS 2 Power-Transistor, 100 V VDS, 40 A ID, -55 to 150 degC, PG-TDSON-8-1, Reel, Green; Manufacturer: Infineon; PartNumber: BSC265N10LSF G; Green: TRUE; ID (max): 40 A; IDpuls (max): 160 A; Polarity: N; Ptot (max): 78 W; QG: 16 nC; RDS (on) (max): 26.5 mOhm; RDS (on) (max) (@4.5V): 36 mOhm; Rth: 1.6 K/W; RthJA (max): 62 K/W; RthJC (max): 1.6 K/W; VDS (max): 100 V; VGS(th) (max): 2.4 V; VGS(th) (min): 1.2 V; DatasheetVersion: Rev. 2.08; PackageReference: PG-TDSON-8-1; PackageDescription: 8-Pin Plastic (Green) Thin Dual Small Outline Non-Leaded Package, 5.15 x 5.9 mm Body, 1.27 mm Pitch; Supplier 1: Mouser; Supplier Part Number 1: 726-BSC265N10LSFG; Supplier 2: Digi-Key; Supplier Part Number 2: BSC265N10LSF G-ND; Halogen-free: TRUE; Packing: Reel; Mounting Technology: Surface Mount; ComponentLink1Description: Manufacturer URL; ComponentLink1URL: http://www.infineon.com/; ComponentLink2Description: Datasheet; ComponentLink2URL: http://www.infineon.com/dgdl/BSC265N10LSF+G_+Rev28.pdf?folderId=db3a304313b8b5a60113cee8763b02d7&fileId=db3a30431b3e89eb011b49a375207b46; ComponentLink3Description: Package Specification; ComponentLink3URL: http://www.infineon.com/cms/packages/SMD_-_Surface_Mounted_Devices/P-PG-TDSON/P-PG-TDSON-08-01x_2x_3.html?__locale=en
footprint INF-PG-TDSON-8-1_V (TDSON, 8-Leads, Body 6.15x5.15mm, Pitch 1.27mm)
pins: 1 SOURCE, 2 SOURCE, 3 SOURCE, 4 GATE, 5 DRAIN, 6 DRAIN, 7 DRAIN, 8 DRAIN
text: 5, 6, 7, 8; 1, 2, 3

## BSC320N20NS3 G
designator Q?
N-Channel OptiMOS 3 Power-Transistor, 200 V VDS, 36 A ID, -55 to 150 degC, PG-TDSON-8-1, Reel, Green; Manufacturer: Infineon; PartNumber: BSC320N20NS3 G; Green: TRUE; ID (max): 36 A; IDpuls (max): 144 A; Polarity: N; Ptot (max): 125 W; QG: 22 nC; RDS (on) (max): 32 mOhm; Rth: 1 K/W; RthJA (max): 1.5 K/W; RthJC (max): 62 K/W; VDS (max): 200 V; VGS(th) (max): 4 V; VGS(th) (min): 2 V; DatasheetVersion: Rev. 2.3; PackageReference: PG-TDSON-8-1; PackageDescription: 8-Pin Plastic (Green) Thin Dual Small Outline Non-Leaded Package, 5.15 x 5.9 mm Body, 1.27 mm Pitch; Supplier 1: Mouser; Supplier Part Number 1: 726-BSC320N20NS3G; Supplier 2: Newark; Supplier Part Number 2: 79X1337; Supplier 3: Farnell; Supplier Part Number 3: 2432712; Supplier 4: Digi-Key; Supplier Part Number 4: BSC320N20NS3 GTR-ND; Supplier 5: Digi-Key; Supplier Part Number 5: BSC320N20NS3 GCT-ND; Supplier 6: Digi-Key; Supplier Part Number 6: BSC320N20NS3 GDKR-ND; Halogen-free: TRUE; Packing: Reel; Mounting Technology: Surface Mount; ComponentLink1Description: Manufacturer URL; ComponentLink1URL: http://www.infineon.com/; ComponentLink2Description: Datasheet; ComponentLink2URL: http://www.infineon.com/dgdl/BSC320N20NS3+G+Rev2.3.pdf?folderId=db3a3043163797a6011637d4bae7003b&fileId=db3a3043243b5f17012495e37b301571; ComponentLink3Description: Package Specification; ComponentLink3URL: http://www.infineon.com/cms/packages/SMD_-_Surface_Mounted_Devices/P-PG-TDSON/P-PG-TDSON-08-01x_2x_3.html?__locale=en
footprint INF-PG-TDSON-8-1_V (TDSON, 8-Leads, Body 6.15x5.15mm, Pitch 1.27mm)
pins: 1 SOURCE, 2 SOURCE, 3 SOURCE, 4 GATE, 5 DRAIN, 6 DRAIN, 7 DRAIN, 8 DRAIN
text: 5, 6, 7, 8; 1, 2, 3

## BSC340N08NS3 G
designator Q?
N-Channel OptiMOS 3 Power-Transistor, 80 V VDS, 23 A ID, -55 to 150 degC, PG-TDSON-8-1, Reel, Green; Manufacturer: Infineon; PartNumber: BSC340N08NS3 G; Green: TRUE; ID (max): 23 A; IDpuls (max): 92 A; Polarity: N; Ptot (max): 32 W; QG: 6.8 nC; RDS (on) (max): 34 mOhm; Rth: 3.9 K/W; RthJA (max): 62 K/W; VDS (max): 80 V; VGS(th) (max): 3.5 V; VGS(th) (min): 2 V; DatasheetVersion: Rev. 2.6; PackageReference: PG-TDSON-8-1; PackageDescription: 8-Pin Plastic (Green) Thin Dual Small Outline Non-Leaded Package, 5.15 x 5.9 mm Body, 1.27 mm Pitch; Supplier 1: Mouser; Supplier Part Number 1: 726-BSC340N08NS3G; Supplier 2: Newark; Supplier Part Number 2: 47W3313; Supplier 3: Farnell; Supplier Part Number 3: 2212853; Supplier 4: Digi-Key; Supplier Part Number 4: BSC340N08NS3 GTR-ND; Supplier 5: Digi-Key; Supplier Part Number 5: BSC340N08NS3 GCT-ND; Supplier 6: Digi-Key; Supplier Part Number 6: BSC340N08NS3 GDKR-ND; Halogen-free: TRUE; Packing: Reel; RthJC (max): 3.9 K/W; Mounting Technology: Surface Mount; ComponentLink1Description: Manufacturer URL; ComponentLink1URL: http://www.infineon.com/; ComponentLink2Description: Datasheet; ComponentLink2URL: http://www.infineon.com/dgdl/BSC340N08NS3G_rev2.6.pdf?folderId=db3a304313b8b5a60113cee8763b02d7&fileId=db3a30431add1d95011ae81c21f2563a; ComponentLink3Description: Package Specification; ComponentLink3URL: http://www.infineon.com/cms/packages/SMD_-_Surface_Mounted_Devices/P-PG-TDSON/P-PG-TDSON-08-01x_2x_3.html?__locale=en
footprint INF-PG-TDSON-8-1_V (TDSON, 8-Leads, Body 6.15x5.15mm, Pitch 1.27mm)
pins: 1 SOURCE, 2 SOURCE, 3 SOURCE, 4 GATE, 5 DRAIN, 6 DRAIN, 7 DRAIN, 8 DRAIN
text: 5, 6, 7, 8; 1, 2, 3

## BSC360N15NS3 G
designator Q?
N-Channel OptiMOS 3 Power-Transistor, 150 V VDS, 33 A ID, -40 to 150 degC, PG-TDSON-8-1, Reel, Green; Manufacturer: Infineon; PartNumber: BSC360N15NS3 G; Green: TRUE; ID (max): 33 A; IDpuls (max): 132 A; Polarity: N; Ptot (max): 74 W; QG: 12 nC; RDS (on) (max): 36 mOhm; Rth: 1.7 K/W; RthJA (max): 50 K/W; RthJC (max): 1.7 K/W; VDS (max): 150 V; VGS(th) (max): 4 V; VGS(th) (min): 2 V; DatasheetVersion: Rev. 2.0; PackageReference: PG-TDSON-8-1; PackageDescription: 8-Pin Plastic (Green) Thin Dual Small Outline Non-Leaded Package, 5.15 x 5.9 mm Body, 1.27 mm Pitch; Supplier 1: Mouser; Supplier Part Number 1: 726-BSC360N15NS3G; Supplier 2: Digi-Key; Supplier Part Number 2: BSC360N15NS3 GTR-ND; Supplier 3: Digi-Key; Supplier Part Number 3: BSC360N15NS3 GCT-ND; Supplier 4: Digi-Key; Supplier Part Number 4: BSC360N15NS3 GDKR-ND; Halogen-free: TRUE; Packing: Reel; Mounting Technology: Surface Mount; ComponentLink1Description: Manufacturer URL; ComponentLink1URL: http://www.infineon.com/; ComponentLink2Description: Datasheet; ComponentLink2URL: http://www.infineon.com/dgdl/BSC360N15NS3_Rev2.pdf?folderId=db3a304325305e6d01254a567c041b4e&fileId=db3a304328c6bd5c012936a5026a2e2c; ComponentLink3Description: Package Specification; ComponentLink3URL: http://www.infineon.com/cms/packages/SMD_-_Surface_Mounted_Devices/P-PG-TDSON/P-PG-TDSON-08-01x_2x_3.html?__locale=en
footprint INF-PG-TDSON-8-1_V (TDSON, 8-Leads, Body 6.15x5.15mm, Pitch 1.27mm)
pins: 1 SOURCE, 2 SOURCE, 3 SOURCE, 4 GATE, 5 DRAIN, 6 DRAIN, 7 DRAIN, 8 DRAIN
text: 5, 6, 7, 8; 1, 2, 3

## BSC440N10NS3 G
designator Q?
N-Channel OptiMOS 3 Power-Transistor, 100 V VDS, 18 A ID, -40 to 150 degC, PG-TDSON-8-1, Reel, Green; Manufacturer: Infineon; PartNumber: BSC440N10NS3 G; Green: TRUE; ID (max): 18 A; IDpuls (max): 72 A; Polarity: N; Ptot (max): 29 W; QG: 8.1 nC; RDS (on) (max): 44 mOhm; Rth: 4.3 K/W; RthJA (max): 50 K/W; VDS (max): 100 V; VGS(th) (max): 3.5 V; VGS(th) (min): 2 V; DatasheetVersion: Rev. 2.4; PackageReference: PG-TDSON-8-1; PackageDescription: 8-Pin Plastic (Green) Thin Dual Small Outline Non-Leaded Package, 5.15 x 5.9 mm Body, 1.27 mm Pitch; Supplier 1: Mouser; Supplier Part Number 1: 726-BSC440N10NS3G; Supplier 2: Digi-Key; Supplier Part Number 2: BSC440N10NS3 GTR-ND; Supplier 3: Digi-Key; Supplier Part Number 3: BSC440N10NS3 GCT-ND; Supplier 4: Digi-Key; Supplier Part Number 4: BSC440N10NS3 GDKR-ND; Halogen-free: TRUE; Packing: Reel; RthJC (max): 4.3 K/W; Mounting Technology: Surface Mount; ComponentLink1Description: Manufacturer URL; ComponentLink1URL: http://www.infineon.com/; ComponentLink2Description: Datasheet; ComponentLink2URL: http://www.infineon.com/dgdl/BSC440N10NS3+Rev2.4.pdf?folderId=db3a304313b8b5a60113cee8763b02d7&fileId=db3a30432239cccd0122604520d47f56; ComponentLink3Description: Package Specification; ComponentLink3URL: http://www.infineon.com/cms/packages/SMD_-_Surface_Mounted_Devices/P-PG-TDSON/P-PG-TDSON-08-01x_2x_3.html?__locale=en
footprint INF-PG-TDSON-8-1_V (TDSON, 8-Leads, Body 6.15x5.15mm, Pitch 1.27mm)
pins: 1 SOURCE, 2 SOURCE, 3 SOURCE, 4 GATE, 5 DRAIN, 6 DRAIN, 7 DRAIN, 8 DRAIN
text: 5, 6, 7, 8; 1, 2, 3

## BSC500N20NS3 G
designator Q?
N-Channel OptiMOS 3 Power-Transistor, 200 V VDS, 24 A ID, -55 to 150 degC, PG-TDSON-8-1, Reel, Green; Manufacturer: Infineon; PartNumber: BSC500N20NS3 G; Green: TRUE; ID (max): 24 A; IDpuls (max): 97 A; Polarity: N; Ptot (max): 96 W; QG: 15 nC; RDS (on) (max): 50 mOhm; Rth: 1.3 K/W; RthJA (max): 75 K/W; VDS (max): 200 V; VGS(th) (max): 4 V; VGS(th) (min): 2 V; DatasheetVersion: Rev. 2.0; PackageReference: PG-TDSON-8-1; PackageDescription: 8-Pin Plastic (Green) Thin Dual Small Outline Non-Leaded Package, 5.15 x 5.9 mm Body, 1.27 mm Pitch; Halogen-free: TRUE; Packing: Reel; RthJC (max): 1.3 K/W; Mounting Technology: Surface Mount; ComponentLink1Description: Manufacturer URL; ComponentLink1URL: http://www.infineon.com/; ComponentLink2Description: Datasheet; ComponentLink2URL: http://www.infineon.com/dgdl/BSC500N20NS3+G+Rev2.pdf?folderId=db3a304325305e6d012596c6ca7b290a&fileId=db3a30433cfb5caa013d11dd032123a3; ComponentLink3Description: Package Specification; ComponentLink3URL: http://www.infineon.com/cms/packages/SMD_-_Surface_Mounted_Devices/P-PG-TDSON/P-PG-TDSON-08-01x_2x_3.html?__locale=en
footprint INF-PG-TDSON-8-1_V (TDSON, 8-Leads, Body 6.15x5.15mm, Pitch 1.27mm)
pins: 1 SOURCE, 2 SOURCE, 3 SOURCE, 4 GATE, 5 DRAIN, 6 DRAIN, 7 DRAIN, 8 DRAIN
text: 5, 6, 7, 8; 1, 2, 3